# EAGLE library part AN7108 (library Audio-Power-amlifier V.2.0)
1-CHIP STEREO PRE-AMPLIFIER/POWER AMPLIFIER CIRCUIT 3V
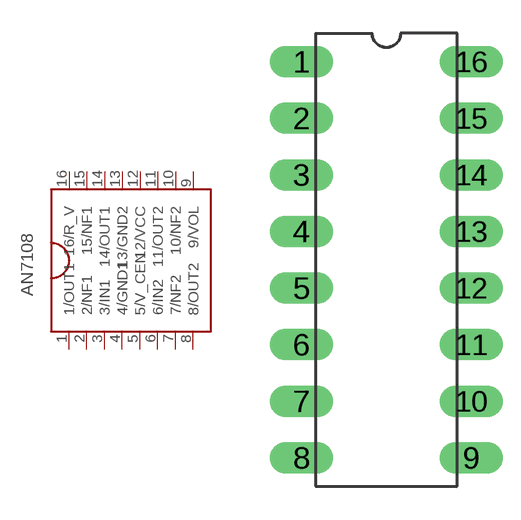
[diagram p140: symbol with the pads of DIL16; footprint DIL16]

Designator prefix IC

## AN7108  [DIL16]
1  1/OUT1  out
2  2/NF1  in
3  3/IN1  in
4  4/GND1  pwr
5  5/V_CEN  pwr
6  6/IN2  in
7  7/NF2  in
8  8/OUT2  out
9  9/VOL  in
10  10/NF2  in
11  11/OUT2  out
12  12/VCC  pwr
13  13/GND2  pwr
14  14/OUT1  out
15  15/NF1  in
16  16/R_V  in

## Footprint DIL16 (pad centres in mm)
drill 0.8 pad 1.422 long: 1 -3.81,8.89; 2 -3.81,6.35; 3 -3.81,3.81; 4 -3.81,1.27; 5 -3.81,-1.27; 6 -3.81,-3.81; 7 -3.81,-6.35; 8 -3.81,-8.89; 9 3.81,-8.89; 10 3.81,-6.35; 11 3.81,-3.81; 12 3.81,-1.27; 13 3.81,1.27; 14 3.81,3.81; 15 3.81,6.35; 16 3.81,8.89